# Altium footprint library JST_XH_4_0.PcbLib: 1 footprints
Each footprint in its own frame and in the unit in brackets; x right, y up, seen from the top. Pads: shape width x height; smd on the part's side, far side on the other; paste and mask are expansions set on the pad; w line width, h text height; cw(c..) or ccw(c..) is an arc to the next point about the centre after c.
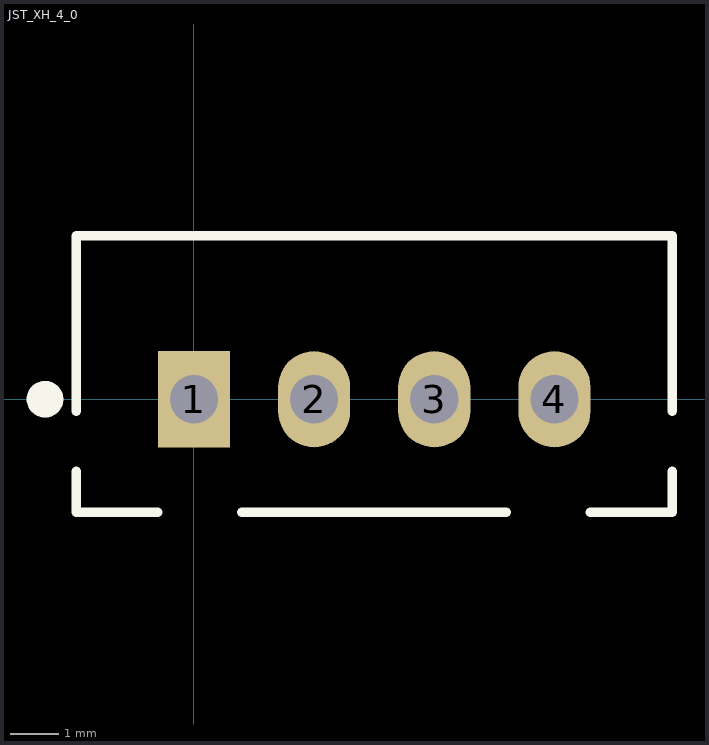
[diagram p0: the footprint, top view; thin cyan lines are the x and y axes]

## JST_XH_4_0 [mm] "JST XH Through Hole Connector, 4 pins"
pads (4):
  rect 1.5x2 hole 1: 1(0,0)
  oval 1.5x2 hole 1: 2(2.5,0) 3(5,0) 4(7.5,0)
Top Overlay:
  circle w0.381: c-3.1,0 r0.191
  lines w0.2: -2.45,-1.5 -2.45,-2.35 -0.75,-2.35 ; -2.45,-0.25 -2.45,3.4 9.95,3.4 9.95,-0.25 ; 1,-2.35 6.5,-2.35 ; 8.25,-2.35 9.95,-2.35 9.95,-1.5
3D body "JST_XH_1x04_P2.50mm.step": height 7, standoff -3.4, extent -2.45,-2.35 9.95,3.4